# Altium footprint library Power_Module.PcbLib: 1 footprints
Each footprint in its own frame and in the unit in brackets; x right, y up, seen from the top. Pads: shape width x height; smd on the part's side, far side on the other; paste and mask are expansions set on the pad; w line width, h text height; cw(c..) or ccw(c..) is an arc to the next point about the centre after c.
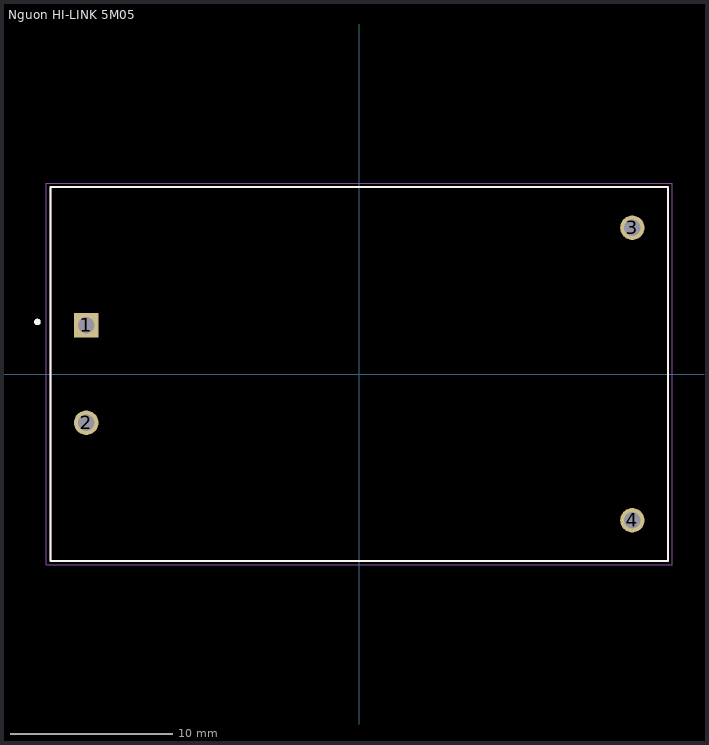
[diagram p0: the footprint, top view; thin cyan lines are the x and y axes]

## Nguon HI-LINK 5M05 [mm]
pads (4):
  rect 1.5x1.5 hole 1: 1(-16.8,3)
  round 1.5 hole 1: 2(-16.8,-3) 3(16.8,9) 4(16.8,-9)
Top Overlay:
  circle w0.2: c-19.8,3.2 r0.1
  lines w0.127: -19,-11.5 -19,11.5 19,11.5 19,-11.5 -19,-11.5
Mechanical 13:
  circle w0.2: c-19.8,3.2 r0.1
  lines w0.127: -19,-11.5 19,-11.5 19,11.5 -19,11.5 -19,-11.5
Mechanical 15:
  lines w0.05: -19.25,-11.75 19.25,-11.75 19.25,11.75 -19.25,11.75 -19.25,-11.75
3D body "HLK-5M05.stp": height 18.01, standoff -3.1, extent -19.077,-11.5 18.923,11.5